# Altium footprint library JST_BM10B-SRSS-TB(LF)(SN).PcbLib: 1 footprints
Each footprint in its own frame and in the unit in brackets; x right, y up, seen from the top. Pads: shape width x height; smd on the part's side, far side on the other; paste and mask are expansions set on the pad; w line width, h text height; cw(c..) or ccw(c..) is an arc to the next point about the centre after c.
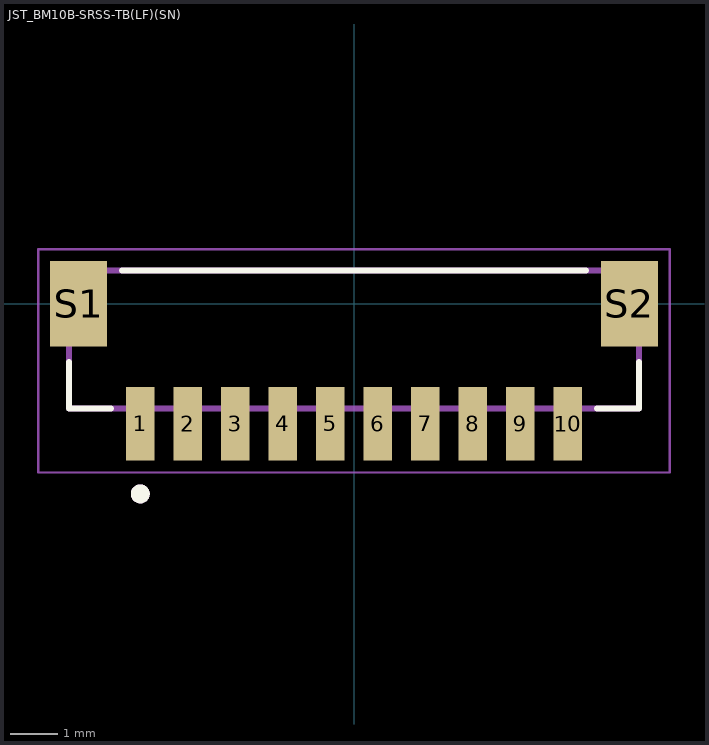
[diagram p0: the footprint, top view; thin cyan lines are the x and y axes]

## JST_BM10B-SRSS-TB(LF)(SN) [mm]
height 6.3
pads (12):
  rect 0.6x1.55 smd: 1(-4.5,-2.525) 2(-3.5,-2.525) 3(-2.5,-2.525) 4(-1.5,-2.525) 5(-0.5,-2.525) 6(0.5,-2.525) 7(1.5,-2.525) 8(2.5,-2.525) 9(3.5,-2.525) 10(4.5,-2.525)
  rect 1.2x1.8 smd: S1(-5.8,0) S2(5.8,0)
Top Overlay:
  circle w0.2: c-4.5,-4 r0.1
  lines w0.127: -6,-1.22 -6,-2.2 -5.12,-2.2 ; -4.88,0.7 4.88,0.7 ; 5.12,-2.2 6,-2.2 6,-1.22
Mechanical 13:
  circle w0.2: c-4.5,-4 r0.1
  lines w0.127: -6,-2.2 6,-2.2 6,0.7 -6,0.7 -6,-2.2
Mechanical 15:
  lines w0.05: -6.65,-3.55 -6.65,1.15 6.65,1.15 6.65,-3.55 -6.65,-3.55